# Altium footprint library Inductor_SMD.PcbLib: 259 footprints (part 1 of 17)
Each footprint in its own frame and in the unit in brackets; x right, y up, seen from the top. Pads: shape width x height; smd on the part's side, far side on the other; paste and mask are expansions set on the pad; w line width, h text height; cw(c..) or ccw(c..) is an arc to the next point about the centre after c.
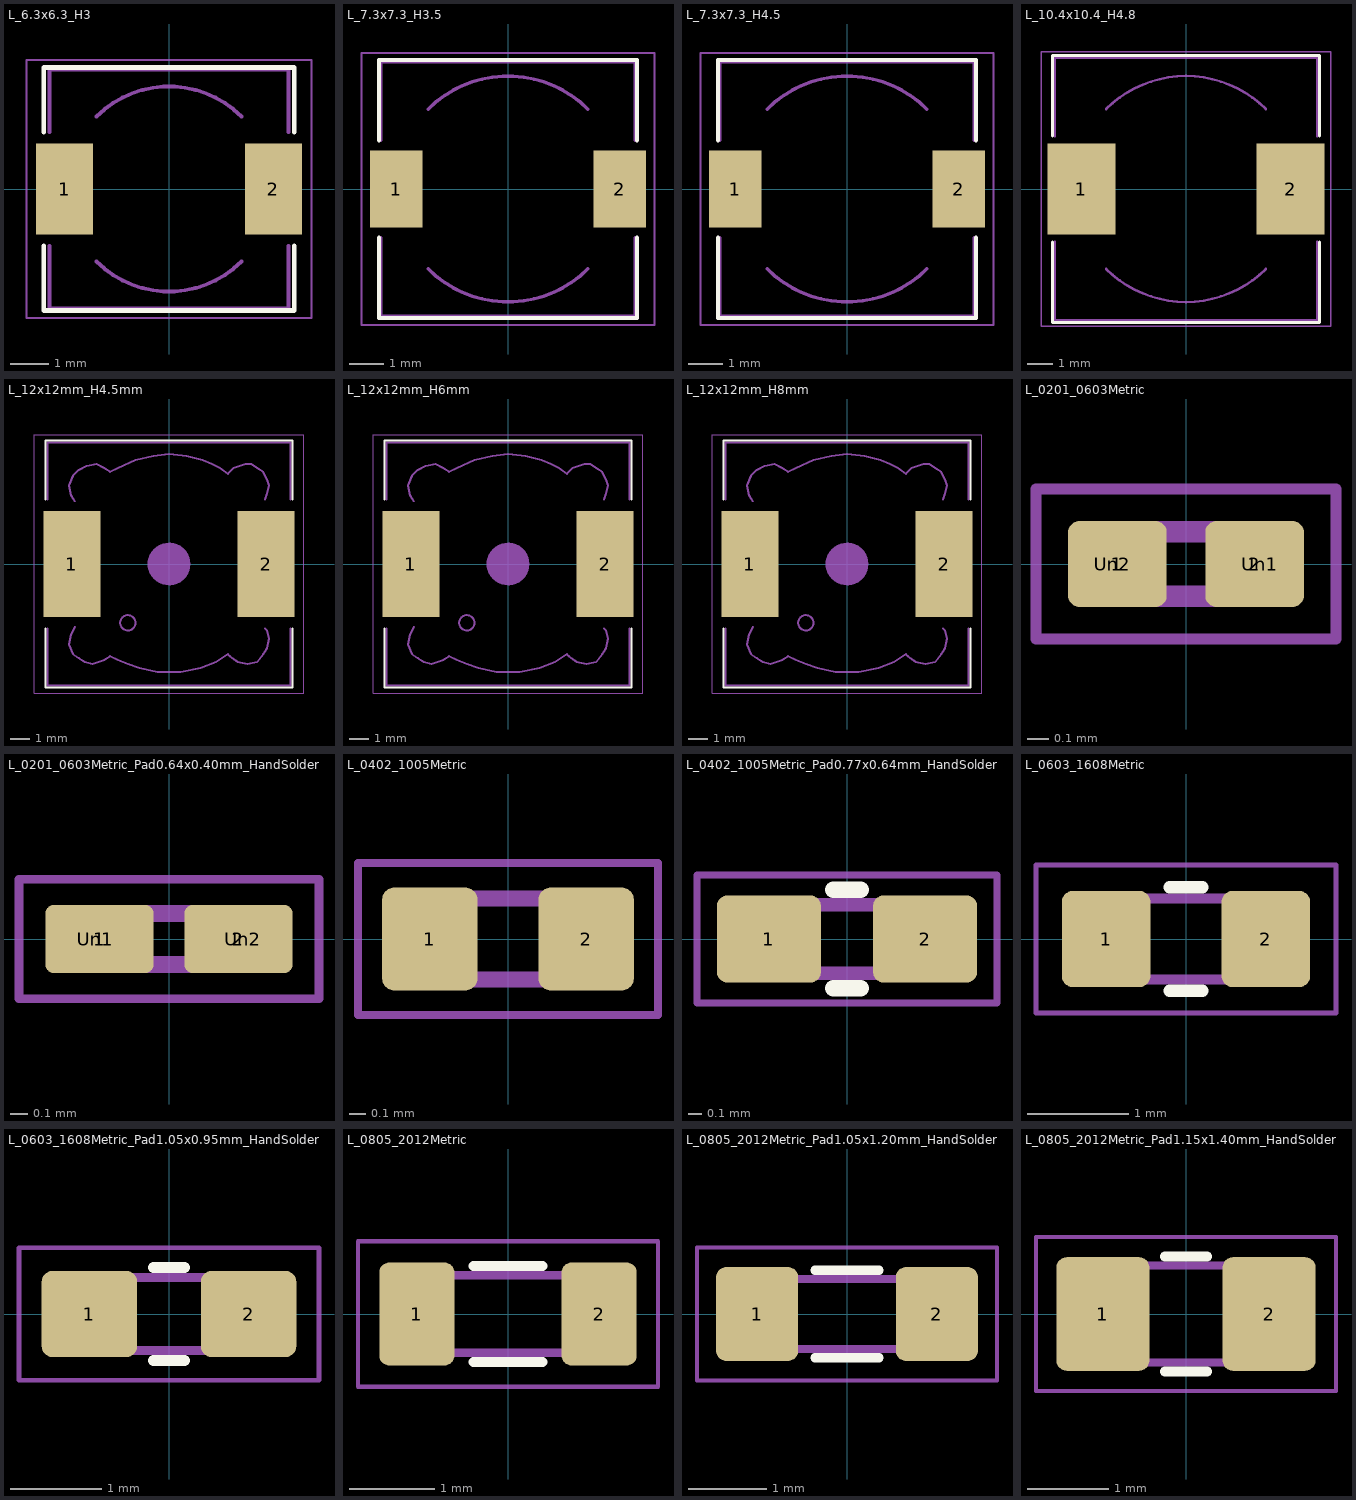
[diagram p0: the footprints below, top view; thin cyan lines are the x and y axes]

## L_6.3x6.3_H3 [mm]
pads (2):
  rect 1.5x2.4 smd: 1(-2.75,0) 2(2.75,0)
F.SilkS:
  lines w0.12: -3.3,-1.5 -3.3,-3.2 3.3,-3.2 3.3,-1.5 ; -3.3,1.5 -3.3,3.2 3.3,3.2 3.3,1.5
F.CrtYd:
  lines w0.05: -3.75,-3.4 -3.75,3.4 3.75,3.4 3.75,-3.4 -3.75,-3.4
F.Fab:
  lines w0.1: -3.15,-1.5 -3.15,-3.15 3.15,-3.15 3.15,-1.5 ; -3.15,1.5 -3.15,3.15 3.15,3.15 3.15,1.5 ; -1.91,-1.91 ccw(c0,0) 1.91,-1.91 ; -1.91,1.91 cw(c0,0) 1.91,1.91
  text "'.Designator'" at -4.047,-0.84 h1

## L_7.3x7.3_H3.5 [mm]
pads (2):
  rect 1.5x2.2 smd: 1(-3.2,0) 2(3.2,0)
F.SilkS:
  lines w0.12: -3.7,-1.4 -3.7,-3.7 3.7,-3.7 3.7,-1.4 ; -3.7,1.4 -3.7,3.7 3.7,3.7 3.7,1.4
F.CrtYd:
  lines w0.05: -4.2,-3.9 -4.2,3.9 4.2,3.9 4.2,-3.9 -4.2,-3.9
F.Fab:
  lines w0.1: -3.65,-1.4 -3.65,-3.65 3.65,-3.65 3.65,-1.4 ; -3.65,1.4 -3.65,3.65 3.65,3.65 3.65,1.4 ; -2.29,-2.29 ccw(c0,0) 2.29,-2.29 ; -2.29,2.29 cw(c0,0) 2.29,2.29
  text "'.Designator'" at -4.047,-0.84 h1

## L_7.3x7.3_H4.5 [mm]
pads (2):
  rect 1.5x2.2 smd: 1(-3.2,0) 2(3.2,0)
F.SilkS:
  lines w0.12: -3.7,-1.4 -3.7,-3.7 3.7,-3.7 3.7,-1.4 ; -3.7,1.4 -3.7,3.7 3.7,3.7 3.7,1.4
F.CrtYd:
  lines w0.05: -4.2,-3.9 -4.2,3.9 4.2,3.9 4.2,-3.9 -4.2,-3.9
F.Fab:
  lines w0.1: -3.65,-1.4 -3.65,-3.65 3.65,-3.65 3.65,-1.4 ; -3.65,1.4 -3.65,3.65 3.65,3.65 3.65,1.4 ; -2.29,-2.29 ccw(c0,0) 2.29,-2.29 ; -2.29,2.29 cw(c0,0) 2.29,2.29
  text "'.Designator'" at -4.047,-0.84 h1

## L_10.4x10.4_H4.8 [mm]
pads (2):
  rect 2.7x3.6 smd: 1(-4.15,0) 2(4.15,0)
F.SilkS:
  lines w0.12: -5.3,-2.1 -5.3,-5.3 5.3,-5.3 5.3,-2.1 ; -5.3,2.1 -5.3,5.3 5.3,5.3 5.3,2.1
F.CrtYd:
  lines w0.05: -5.75,-5.45 5.75,-5.45 5.75,5.45 -5.75,5.45 -5.75,-5.45
F.Fab:
  lines w0.1: -5.2,-2.1 -5.2,-5.2 5.2,-5.2 5.2,-2.1 ; -5.2,2.1 -5.2,5.2 5.2,5.2 5.2,2.1 ; -3.17,-3.17 ccw(c0,0) 3.17,-3.17 ; -3.17,3.17 cw(c0,0) 3.17,3.17
  text "'.Designator'" at -4.047,-0.84 h1

## L_12x12mm_H4.5mm [mm]
pads (2):
  rect 2.9x5.4 smd: 1(-4.95,0) 2(4.95,0)
F.SilkS:
  lines w0.12: -6.3,-3.3 -6.3,-6.3 6.3,-6.3 6.3,-3.3 ; -6.3,3.3 -6.3,6.3 6.3,6.3 6.3,3.3
F.CrtYd:
  lines w0.05: -6.86,-6.6 6.86,-6.6 6.86,6.6 -6.86,6.6 -6.86,-6.6
F.Fab:
  circle w0.1: c-2.1,-3 r0.391
  lines w0.1: -6.2,-3.3 -6.2,-6.2 6.2,-6.2 6.2,-3.3 ; -6.2,3.3 -6.2,6.2 6.2,6.2 6.2,3.3 ; -4.8,-3.2 -5,-3.6 -5.1,-4.1 -4.9,-4.6 -4.6,-4.8 -4.3,-5 -3.9,-5.1 -3.3,-4.9 -3,-4.7 -2.6,-4.9 -2.1,-5.1 -1.5,-5.3 -0.6,-5.5 0.6,-5.5 1.6,-5.3 2.4,-5 3,-4.6 3.1,-4.7 3.5,-5 4,-5.1 4.5,-5 4.8,-4.6 5,-4.3 5.1,-3.8 5,-3.4 4.9,-3.3 ; -4.8,3.2 -5,3.5 -5.1,4 -4.9,4.5 -4.6,4.8 -4.2,5 -3.7,5.1 -3.3,4.9 -3,4.7 -2.6,4.9 -1.7,5.3 -0.8,5.5 0,5.6 0.9,5.5 1.7,5.3 2.2,5.1 2.6,4.9 3,4.6 3.3,4.9 3.6,5 3.9,5.1 4.2,5.1 4.5,4.9 4.8,4.7 5,4.3 5.1,4 5,3.6 4.9,3.3
  text "'.Designator'" at -4.047,-0.84 h1
F.Adhes:
  circle w0.38: c0,0 r0.212
  circle w0.38: c0,0 r0.9
  circle w0.38: c0,0 r0.55

## L_12x12mm_H6mm [mm]
pads (2):
  rect 2.9x5.4 smd: 1(-4.95,0) 2(4.95,0)
F.SilkS:
  lines w0.12: -6.3,-3.3 -6.3,-6.3 6.3,-6.3 6.3,-3.3 ; -6.3,3.3 -6.3,6.3 6.3,6.3 6.3,3.3
F.CrtYd:
  lines w0.05: -6.86,-6.6 -6.86,6.6 6.86,6.6 6.86,-6.6 -6.86,-6.6
F.Fab:
  circle w0.1: c-2.1,-3 r0.391
  lines w0.1: -6.2,-3.3 -6.2,-6.2 6.2,-6.2 6.2,-3.3 ; -6.2,3.3 -6.2,6.2 6.2,6.2 6.2,3.3 ; -4.8,-3.2 -5,-3.6 -5.1,-4.1 -4.9,-4.6 -4.6,-4.8 -4.3,-5 -3.9,-5.1 -3.3,-4.9 -3,-4.7 -2.6,-4.9 -2.1,-5.1 -1.5,-5.3 -0.6,-5.5 0.6,-5.5 1.6,-5.3 2.4,-5 3,-4.6 3.1,-4.7 3.5,-5 4,-5.1 4.5,-5 4.8,-4.6 5,-4.3 5.1,-3.8 5,-3.4 4.9,-3.3 ; -4.8,3.2 -5,3.5 -5.1,4 -4.9,4.5 -4.6,4.8 -4.2,5 -3.7,5.1 -3.3,4.9 -3,4.7 -2.6,4.9 -1.7,5.3 -0.8,5.5 0,5.6 0.9,5.5 1.7,5.3 2.2,5.1 2.6,4.9 3,4.6 3.3,4.9 3.6,5 3.9,5.1 4.2,5.1 4.5,4.9 4.8,4.7 5,4.3 5.1,4 5,3.6 4.9,3.3
  text "'.Designator'" at -4.047,-0.84 h1
F.Adhes:
  circle w0.38: c0,0 r0.212
  circle w0.38: c0,0 r0.9
  circle w0.38: c0,0 r0.55

## L_12x12mm_H8mm [mm]
pads (2):
  rect 2.9x5.4 smd: 1(-4.95,0) 2(4.95,0)
F.SilkS:
  lines w0.12: -6.3,-3.3 -6.3,-6.3 6.3,-6.3 6.3,-3.3 ; -6.3,3.3 -6.3,6.3 6.3,6.3 6.3,3.3
F.CrtYd:
  lines w0.05: -6.86,-6.6 6.86,-6.6 6.86,6.6 -6.86,6.6 -6.86,-6.6
F.Fab:
  circle w0.1: c-2.1,-3 r0.391
  lines w0.1: -6.2,-3.3 -6.2,-6.2 6.2,-6.2 6.2,-3.3 ; -6.2,3.3 -6.2,6.2 6.2,6.2 6.2,3.3 ; -4.8,-3.2 -5,-3.6 -5.1,-4.1 -4.9,-4.6 -4.6,-4.8 -4.3,-5 -3.9,-5.1 -3.3,-4.9 -3,-4.7 -2.6,-4.9 -2.1,-5.1 -1.5,-5.3 -0.6,-5.5 0.6,-5.5 1.6,-5.3 2.4,-5 3,-4.6 3.1,-4.7 3.5,-5 4,-5.1 4.5,-5 4.8,-4.6 5,-4.3 5.1,-3.8 5,-3.4 4.9,-3.3 ; -4.8,3.2 -5,3.5 -5.1,4 -4.9,4.5 -4.6,4.8 -4.2,5 -3.7,5.1 -3.3,4.9 -3,4.7 -2.6,4.9 -1.7,5.3 -0.8,5.5 0,5.6 0.9,5.5 1.7,5.3 2.2,5.1 2.6,4.9 3,4.6 3.3,4.9 3.6,5 3.9,5.1 4.2,5.1 4.5,4.9 4.8,4.7 5,4.3 5.1,4 5,3.6 4.9,3.3
  text "'.Designator'" at -4.047,-0.84 h1
F.Adhes:
  circle w0.38: c0,0 r0.55
  circle w0.38: c0,0 r0.9
  circle w0.38: c0,0 r0.212

## L_0201_0603Metric [mm]
pads (4):
  rrect25% 0.46x0.4 smd: 1(-0.32,0) 2(0.32,0)
  rrect25% 0.318x0.36 on Top Paste: Un1(0.345,0) Un2(-0.345,0)
F.CrtYd:
  lines w0.05: -0.7,-0.35 0.7,-0.35 0.7,0.35 -0.7,0.35 -0.7,-0.35
F.Fab:
  lines w0.1: -0.3,-0.15 0.3,-0.15 0.3,0.15 -0.3,0.15 -0.3,-0.15
  text "'.Designator'" at -1.014,0.467 h0.25
3D body "L_0201_0603Metric.step": height 0.3, standoff 0, extent -0.3,-0.15 0.3,0.15

## L_0201_0603Metric_Pad0.64x0.40mm_HandSolder [mm]
pads (4):
  rrect25% 0.635x0.4 smd: 1(-0.407,0) 2(0.407,0)
  rrect25% 0.458x0.36 on Top Paste: Un1(-0.433,0) Un2(0.433,0)
F.CrtYd:
  lines w0.05: -0.88,-0.35 -0.88,0.35 0.88,0.35 0.88,-0.35 -0.88,-0.35
F.Fab:
  lines w0.1: -0.3,-0.15 -0.3,0.15 0.3,0.15 0.3,-0.15 -0.3,-0.15
  text "'.Designator'" at -1.014,0.467 h0.25
3D body "L_0201_0603Metric.step": height 0.3, standoff 0, extent -0.3,-0.15 0.3,0.15

## L_0402_1005Metric [mm]
pads (2):
  rrect25% 0.59x0.64 smd: 1(-0.485,0) 2(0.485,0)
F.CrtYd:
  lines w0.05: -0.93,-0.47 -0.93,0.47 0.93,0.47 0.93,-0.47 -0.93,-0.47
F.Fab:
  lines w0.1: -0.5,-0.25 -0.5,0.25 0.5,0.25 0.5,-0.25 -0.5,-0.25
  text "'.Designator'" at -1.014,-0.213 h0.25
3D body "L_0402_1005Metric.step": height 0.5, standoff 0, extent -0.5,-0.25 0.5,0.25

## L_0402_1005Metric_Pad0.77x0.64mm_HandSolder [mm]
pads (2):
  rrect25% 0.765x0.64 smd: 1(-0.573,0) 2(0.573,0)
F.SilkS:
  lines w0.12: -0.1,-0.36 0.1,-0.36 ; -0.1,0.36 0.1,0.36
F.CrtYd:
  lines w0.05: -1.1,-0.47 1.1,-0.47 1.1,0.47 -1.1,0.47 -1.1,-0.47
F.Fab:
  lines w0.1: -0.5,-0.25 -0.5,0.25 0.5,0.25 0.5,-0.25 -0.5,-0.25
  text "'.Designator'" at -1.014,-0.213 h0.25
3D body "L_0402_1005Metric.step": height 0.5, standoff 0, extent -0.5,-0.25 0.5,0.25

## L_0603_1608Metric [mm]
pads (2):
  rrect25% 0.875x0.95 smd: 1(-0.787,0) 2(0.787,0)
F.SilkS:
  lines w0.12: -0.163,-0.51 0.163,-0.51 ; -0.163,0.51 0.163,0.51
F.CrtYd:
  lines w0.05: -1.48,-0.73 -1.48,0.73 1.48,0.73 1.48,-0.73 -1.48,-0.73
F.Fab:
  lines w0.1: -0.8,-0.4 -0.8,0.4 0.8,0.4 0.8,-0.4 -0.8,-0.4
  text "'.Designator'" at -1.619,-0.336 h0.4
3D body "L_0603_1608Metric.step": height 0.8, standoff 0, extent -0.8,-0.4 0.8,0.4

## L_0603_1608Metric_Pad1.05x0.95mm_HandSolder [mm]
pads (2):
  rrect25% 1.05x0.95 smd: 1(-0.875,0) 2(0.875,0)
F.SilkS:
  lines w0.12: -0.171,-0.51 0.171,-0.51 ; -0.171,0.51 0.171,0.51
F.CrtYd:
  lines w0.05: -1.65,-0.73 -1.65,0.73 1.65,0.73 1.65,-0.73 -1.65,-0.73
F.Fab:
  lines w0.1: -0.8,-0.4 -0.8,0.4 0.8,0.4 0.8,-0.4 -0.8,-0.4
  text "'.Designator'" at -1.619,-0.336 h0.4
3D body "L_0603_1608Metric.step": height 0.8, standoff 0, extent -0.8,-0.4 0.8,0.4

## L_0805_2012Metric [mm]
pads (2):
  rrect25% 0.875x1.2 smd: 1(-1.062,0) 2(1.062,0)
F.SilkS:
  lines w0.12: -0.4,-0.56 0.4,-0.56 ; -0.4,0.56 0.4,0.56
F.CrtYd:
  lines w0.05: -1.75,-0.85 1.75,-0.85 1.75,0.85 -1.75,0.85 -1.75,-0.85
F.Fab:
  lines w0.1: -1,-0.45 1,-0.45 1,0.45 -1,0.45 -1,-0.45
  text "'.Designator'" at -2.028,-0.425 h0.5
3D body "L_0805_2012Metric.step": height 1.25, standoff 0, extent -1,-0.625 1,0.625

## L_0805_2012Metric_Pad1.05x1.20mm_HandSolder [mm]
pads (2):
  rrect24% 1.05x1.2 smd: 1(-1.15,0) 2(1.15,0)
F.SilkS:
  lines w0.12: -0.41,-0.56 0.41,-0.56 ; -0.41,0.56 0.41,0.56
F.CrtYd:
  lines w0.05: -1.92,-0.85 -1.92,0.85 1.92,0.85 1.92,-0.85 -1.92,-0.85
F.Fab:
  lines w0.1: -1,-0.45 1,-0.45 1,0.45 -1,0.45 -1,-0.45
  text "'.Designator'" at -2.028,-0.425 h0.5
3D body "L_0805_2012Metric.step": height 1.25, standoff 0, extent -1,-0.625 1,0.625

## L_0805_2012Metric_Pad1.15x1.40mm_HandSolder [mm]
pads (2):
  rrect22% 1.15x1.4 smd: 1(-1.025,0) 2(1.025,0)
F.SilkS:
  lines w0.12: -0.261,-0.71 0.261,-0.71 ; -0.261,0.71 0.261,0.71
F.CrtYd:
  lines w0.05: -1.85,-0.95 1.85,-0.95 1.85,0.95 -1.85,0.95 -1.85,-0.95
F.Fab:
  lines w0.1: -1,-0.6 1,-0.6 1,0.6 -1,0.6 -1,-0.6
  text "'.Designator'" at -2.028,-0.425 h0.5
3D body "L_0805_2012Metric.step": height 1.25, standoff 0, extent -1,-0.625 1,0.625